# Altium footprint library 5024430270.PcbLib: 1 footprints
Each footprint in its own frame and in the unit in brackets; x right, y up, seen from the top. Pads: shape width x height; smd on the part's side, far side on the other; paste and mask are expansions set on the pad; w line width, h text height; cw(c..) or ccw(c..) is an arc to the next point about the centre after c.
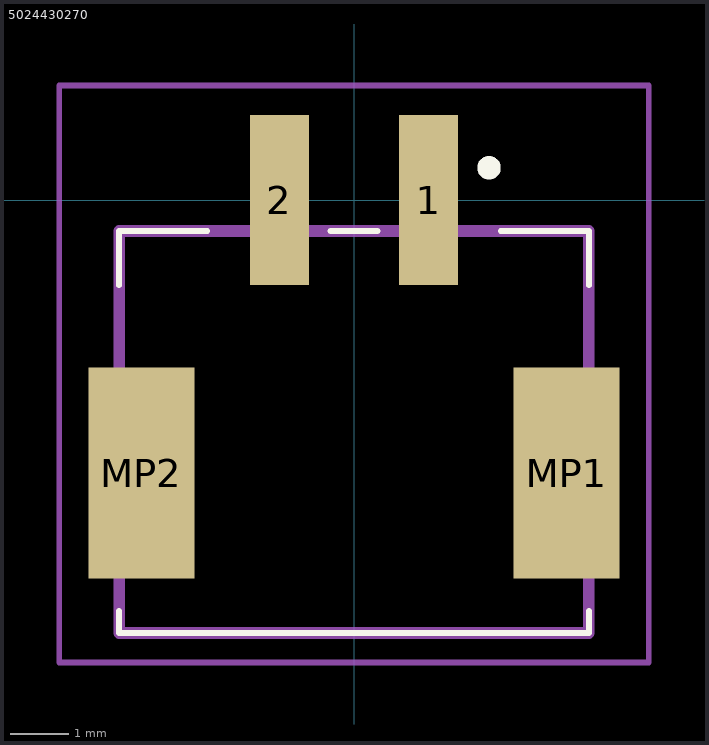
[diagram p0: the footprint, top view; thin cyan lines are the x and y axes]

## 5024430270 [mm]
pads (4):
  rect 1x2.9 smd: 1(1.27,0) 2(-1.27,0)
  rect 1.8x3.6 smd: MP1(3.62,-4.65) MP2(-3.62,-4.65)
Top Overlay:
  lines w0.1: -4,-7 -4,-7.375 4,-7.375 4,-7 ; -2.5,-0.525 -4,-0.525 -4,-1.45 ; -0.4,-0.525 0.4,-0.525 ; 2.5,-0.525 4,-0.525 4,-1.45 ; -4,-1.45 -4,-1.45
  lines w0.2: 2.3,0.45 cw(c2.3,0.55) 2.3,0.65 ; 2.3,0.45 2.3,0.45 ; 2.3,0.45 ccw(c2.3,0.55) 2.3,0.65 ; 2.3,0.65 2.3,0.65
Mechanical 15:
  lines w0.2: -4,-7.375 4,-7.375 4,-0.525 -4,-0.525 -4,-7.375
Mechanical 20:
  lines w0.1: -5.02,-7.875 5.02,-7.875 5.02,1.95 -5.02,1.95 -5.02,-7.875